# EAGLE library part TLP552 (library mylib2)
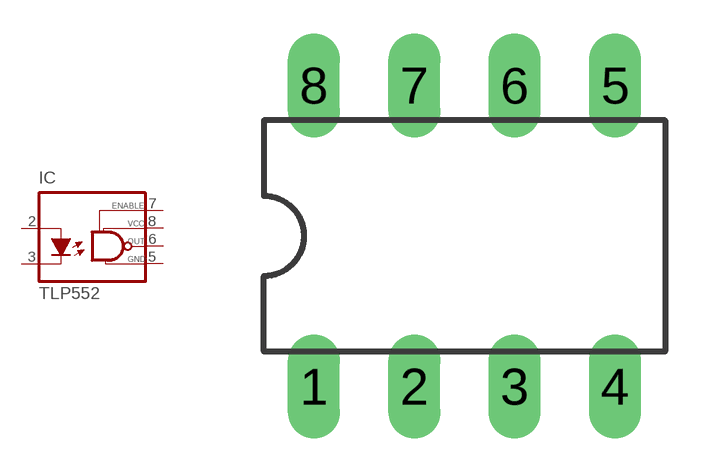
[diagram p21: symbol with the pads of DIL8; footprint DIL8]

Designator prefix IC

## TLP552  [DIL8]
2  A  pas
3  C  pas
5  GND  pwr
6  OUT  out
7  EN  in
8  VCC  pwr

## Footprint DIL8 (pad centres in mm)
drill 0.813 long: 1 -3.81,-3.81; 2 -1.27,-3.81; 3 1.27,-3.81; 4 3.81,-3.81; 5 3.81,3.81; 6 1.27,3.81; 7 -1.27,3.81; 8 -3.81,3.81